# Altium integrated library Altium_WCAP-CSGP (rev22a).IntLib: 953 symbols (part 7 of 17)
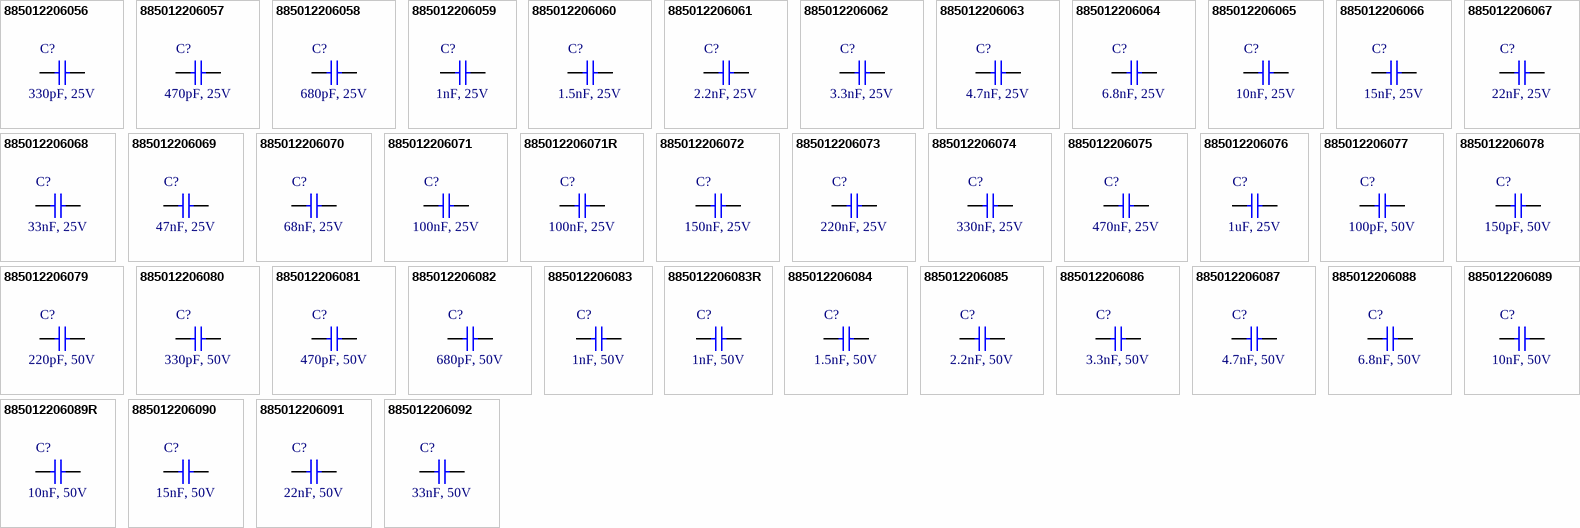
[diagram p33: symbols 885012206056 to 885012206092]

## 885012206079
designator C?, comment 220pF, 50V
WCAP-CSGP Multilayer Ceramic Chip Capacitor, General Purpose, size 0603, X7R, 220pF, 50V; Manufacturer: Wurth Elektronik; Manufacturer Part Number: 885012206079; Capacitance Tolerance: +/-10%; Dissipation Factor: 2.5%; Isolation Resistance: 10GOhm; Technical Reference: X7R0603221K050DFCT10000; Capacitance: 220pF; Ceramic Type: X7R; ComponentLink1Description: Manufacturer Link; ComponentLink1URL: http://www.we-online.de; ComponentLink2Description: Datasheet; ComponentLink2URL: https://www.we-online.com/catalog/datasheet/885012206079.pdf; Height: 0.8mm; Length: 1.6mm; Mounting Technology: SMT; Operating Temperature max.: 125C; Operating Temperature min.: -55C; Packaging: Tape and Reel; Rated Voltage: 50V; Size: 0603; Width: 0.8mm
footprint WCAP-CSGP_0603_L1.6W0.8H0.8_Wave
footprint WCAP-CSGP_0603_L1.6W0.8H0.8_Reflow
pins: 1, 2

## 885012206080
designator C?, comment 330pF, 50V
WCAP-CSGP Multilayer Ceramic Chip Capacitor, General Purpose, size 0603, X7R, 330pF, 50V; Manufacturer: Wurth Elektronik; Manufacturer Part Number: 885012206080; Capacitance Tolerance: +/-10%; Dissipation Factor: 2.5%; Isolation Resistance: 10GOhm; Technical Reference: X7R0603331K050DFCT10000; Capacitance: 330pF; Ceramic Type: X7R; ComponentLink1Description: Manufacturer Link; ComponentLink1URL: http://www.we-online.de; ComponentLink2Description: Datasheet; ComponentLink2URL: https://www.we-online.com/catalog/datasheet/885012206080.pdf; Height: 0.8mm; Length: 1.6mm; Mounting Technology: SMT; Operating Temperature max.: 125C; Operating Temperature min.: -55C; Packaging: Tape and Reel; Rated Voltage: 50V; Size: 0603; Width: 0.8mm
footprint WCAP-CSGP_0603_L1.6W0.8H0.8_Wave
footprint WCAP-CSGP_0603_L1.6W0.8H0.8_Reflow
pins: 1, 2

## 885012206081
designator C?, comment 470pF, 50V
WCAP-CSGP Multilayer Ceramic Chip Capacitor, General Purpose, size 0603, X7R, 470pF, 50V; Manufacturer: Wurth Elektronik; Manufacturer Part Number: 885012206081; Capacitance Tolerance: +/-10%; Dissipation Factor: 2.5%; Isolation Resistance: 10GOhm; Technical Reference: X7R0603471K050DFCT10000; Capacitance: 470pF; Ceramic Type: X7R; ComponentLink1Description: Manufacturer Link; ComponentLink1URL: http://www.we-online.de; ComponentLink2Description: Datasheet; ComponentLink2URL: https://www.we-online.com/catalog/datasheet/885012206081.pdf; Height: 0.8mm; Length: 1.6mm; Mounting Technology: SMT; Operating Temperature max.: 125C; Operating Temperature min.: -55C; Packaging: Tape and Reel; Rated Voltage: 50V; Size: 0603; Width: 0.8mm
footprint WCAP-CSGP_0603_L1.6W0.8H0.8_Wave
footprint WCAP-CSGP_0603_L1.6W0.8H0.8_Reflow
pins: 1, 2

## 885012206082
designator C?, comment 680pF, 50V
WCAP-CSGP Multilayer Ceramic Chip Capacitor, General Purpose, size 0603, X7R, 680pF, 50V; Manufacturer: Wurth Elektronik; Manufacturer Part Number: 885012206082; Capacitance Tolerance: +/-10%; Dissipation Factor: 2.5%; Isolation Resistance: 10GOhm; Technical Reference: X7R0603681K050DFCT10000; Capacitance: 680pF; Ceramic Type: X7R; ComponentLink1Description: Manufacturer Link; ComponentLink1URL: http://www.we-online.de; ComponentLink2Description: Datasheet; ComponentLink2URL: https://www.we-online.com/catalog/datasheet/885012206082.pdf; Height: 0.8mm; Length: 1.6mm; Mounting Technology: SMT; Operating Temperature max.: 125C; Operating Temperature min.: -55C; Packaging: Tape and Reel; Rated Voltage: 50V; Size: 0603; Width: 0.8mm
footprint WCAP-CSGP_0603_L1.6W0.8H0.8_Wave
footprint WCAP-CSGP_0603_L1.6W0.8H0.8_Reflow
pins: 1, 2

## 885012206083
designator C?, comment 1nF, 50V
WCAP-CSGP Multilayer Ceramic Chip Capacitor, General Purpose, size 0603, X7R, 1nF, 50V; Manufacturer: Wurth Elektronik; Manufacturer Part Number: 885012206083; Capacitance Tolerance: +/-10%; Dissipation Factor: 2.5%; Isolation Resistance: 10GOhm; Technical Reference: X7R0603102K050DFCT10000; Capacitance: 1nF; Ceramic Type: X7R; ComponentLink1Description: Manufacturer Link; ComponentLink1URL: http://www.we-online.de; ComponentLink2Description: Datasheet; ComponentLink2URL: https://www.we-online.com/catalog/datasheet/885012206083.pdf; Height: 0.8mm; Length: 1.6mm; Mounting Technology: SMT; Operating Temperature max.: 125C; Operating Temperature min.: -55C; Packaging: Tape and Reel; Rated Voltage: 50V; Size: 0603; Width: 0.8mm
footprint WCAP-CSGP_0603_L1.6W0.8H0.8_Wave
footprint WCAP-CSGP_0603_L1.6W0.8H0.8_Reflow
pins: 1, 2

## 885012206083R
designator C?, comment 1nF, 50V
WCAP-CSGP Multilayer Ceramic Chip Capacitor, General Purpose, size 0603, X7R, 1nF, 50V; Manufacturer: Wurth Elektronik; Manufacturer Part Number: 885012206083R; Capacitance Tolerance: +/-10%; Dissipation Factor: 2.5%; Isolation Resistance: 10GOhm; Technical Reference: X7R0603102K050DFCT20000; Capacitance: 1nF; Ceramic Type: X7R; ComponentLink1Description: Manufacturer Link; ComponentLink1URL: http://www.we-online.de; ComponentLink2Description: Datasheet; ComponentLink2URL: https://www.we-online.com/catalog/datasheet/885012206083R.pdf; Height: 0.8mm; Length: 1.6mm; Mounting Technology: SMT; Operating Temperature max.: 125C; Operating Temperature min.: -55C; Packaging: Tape and Reel; Rated Voltage: 50V; Size: 0603; Width: 0.8mm
footprint WCAP-CSGP_0603_L1.6W0.8H0.8_Wave
footprint WCAP-CSGP_0603_L1.6W0.8H0.8_Reflow
pins: 1, 2

## 885012206084
designator C?, comment 1.5nF, 50V
WCAP-CSGP Multilayer Ceramic Chip Capacitor, General Purpose, size 0603, X7R, 1.5nF, 50V; Manufacturer: Wurth Elektronik; Manufacturer Part Number: 885012206084; Capacitance Tolerance: +/-10%; Dissipation Factor: 2.5%; Isolation Resistance: 10GOhm; Technical Reference: X7R0603152K050DFCT10000; Capacitance: 1.5nF; Ceramic Type: X7R; ComponentLink1Description: Manufacturer Link; ComponentLink1URL: http://www.we-online.de; ComponentLink2Description: Datasheet; ComponentLink2URL: https://www.we-online.com/catalog/datasheet/885012206084.pdf; Height: 0.8mm; Length: 1.6mm; Mounting Technology: SMT; Operating Temperature max.: 125C; Operating Temperature min.: -55C; Packaging: Tape and Reel; Rated Voltage: 50V; Size: 0603; Width: 0.8mm
footprint WCAP-CSGP_0603_L1.6W0.8H0.8_Wave
footprint WCAP-CSGP_0603_L1.6W0.8H0.8_Reflow
pins: 1, 2

## 885012206085
designator C?, comment 2.2nF, 50V
WCAP-CSGP Multilayer Ceramic Chip Capacitor, General Purpose, size 0603, X7R, 2.2nF, 50V; Manufacturer: Wurth Elektronik; Manufacturer Part Number: 885012206085; Capacitance Tolerance: +/-10%; Dissipation Factor: 2.5%; Isolation Resistance: 10GOhm; Technical Reference: X7R0603222K050DFCT10000; Capacitance: 2.2nF; Ceramic Type: X7R; ComponentLink1Description: Manufacturer Link; ComponentLink1URL: http://www.we-online.de; ComponentLink2Description: Datasheet; ComponentLink2URL: https://www.we-online.com/catalog/datasheet/885012206085.pdf; Height: 0.8mm; Length: 1.6mm; Mounting Technology: SMT; Operating Temperature max.: 125C; Operating Temperature min.: -55C; Packaging: Tape and Reel; Rated Voltage: 50V; Size: 0603; Width: 0.8mm
footprint WCAP-CSGP_0603_L1.6W0.8H0.8_Wave
footprint WCAP-CSGP_0603_L1.6W0.8H0.8_Reflow
pins: 1, 2

## 885012206086
designator C?, comment 3.3nF, 50V
WCAP-CSGP Multilayer Ceramic Chip Capacitor, General Purpose, size 0603, X7R, 3.3nF, 50V; Manufacturer: Wurth Elektronik; Manufacturer Part Number: 885012206086; Capacitance Tolerance: +/-10%; Dissipation Factor: 2.5%; Isolation Resistance: 10GOhm; Technical Reference: X7R0603332K050DFCT10000; Capacitance: 3.3nF; Ceramic Type: X7R; ComponentLink1Description: Manufacturer Link; ComponentLink1URL: http://www.we-online.de; ComponentLink2Description: Datasheet; ComponentLink2URL: https://www.we-online.com/catalog/datasheet/885012206086.pdf; Height: 0.8mm; Length: 1.6mm; Mounting Technology: SMT; Operating Temperature max.: 125C; Operating Temperature min.: -55C; Packaging: Tape and Reel; Rated Voltage: 50V; Size: 0603; Width: 0.8mm
footprint WCAP-CSGP_0603_L1.6W0.8H0.8_Wave
footprint WCAP-CSGP_0603_L1.6W0.8H0.8_Reflow
pins: 1, 2

## 885012206087
designator C?, comment 4.7nF, 50V
WCAP-CSGP Multilayer Ceramic Chip Capacitor, General Purpose, size 0603, X7R, 4.7nF, 50V; Manufacturer: Wurth Elektronik; Manufacturer Part Number: 885012206087; Capacitance Tolerance: +/-10%; Dissipation Factor: 2.5%; Isolation Resistance: 10GOhm; Technical Reference: X7R0603472K050DFCT10000; Capacitance: 4.7nF; Ceramic Type: X7R; ComponentLink1Description: Manufacturer Link; ComponentLink1URL: http://www.we-online.de; ComponentLink2Description: Datasheet; ComponentLink2URL: https://www.we-online.com/catalog/datasheet/885012206087.pdf; Height: 0.8mm; Length: 1.6mm; Mounting Technology: SMT; Operating Temperature max.: 125C; Operating Temperature min.: -55C; Packaging: Tape and Reel; Rated Voltage: 50V; Size: 0603; Width: 0.8mm
footprint WCAP-CSGP_0603_L1.6W0.8H0.8_Wave
footprint WCAP-CSGP_0603_L1.6W0.8H0.8_Reflow
pins: 1, 2

## 885012206088
designator C?, comment 6.8nF, 50V
WCAP-CSGP Multilayer Ceramic Chip Capacitor, General Purpose, size 0603, X7R, 6.8nF, 50V; Manufacturer: Wurth Elektronik; Manufacturer Part Number: 885012206088; Capacitance Tolerance: +/-10%; Dissipation Factor: 2.5%; Isolation Resistance: 10GOhm; Technical Reference: X7R0603682K050DFCT10000; Capacitance: 6.8nF; Ceramic Type: X7R; ComponentLink1Description: Manufacturer Link; ComponentLink1URL: http://www.we-online.de; ComponentLink2Description: Datasheet; ComponentLink2URL: https://www.we-online.com/catalog/datasheet/885012206088.pdf; Height: 0.8mm; Length: 1.6mm; Mounting Technology: SMT; Operating Temperature max.: 125C; Operating Temperature min.: -55C; Packaging: Tape and Reel; Rated Voltage: 50V; Size: 0603; Width: 0.8mm
footprint WCAP-CSGP_0603_L1.6W0.8H0.8_Wave
footprint WCAP-CSGP_0603_L1.6W0.8H0.8_Reflow
pins: 1, 2

## 885012206089
designator C?, comment 10nF, 50V
WCAP-CSGP Multilayer Ceramic Chip Capacitor, General Purpose, size 0603, X7R, 10nF, 50V; Manufacturer: Wurth Elektronik; Manufacturer Part Number: 885012206089; Capacitance Tolerance: +/-10%; Dissipation Factor: 2.5%; Isolation Resistance: 10GOhm; Technical Reference: X7R0603103K050DFCT10000; Capacitance: 10nF; Ceramic Type: X7R; ComponentLink1Description: Manufacturer Link; ComponentLink1URL: http://www.we-online.de; ComponentLink2Description: Datasheet; ComponentLink2URL: https://www.we-online.com/catalog/datasheet/885012206089.pdf; Height: 0.8mm; Length: 1.6mm; Mounting Technology: SMT; Operating Temperature max.: 125C; Operating Temperature min.: -55C; Packaging: Tape and Reel; Rated Voltage: 50V; Size: 0603; Width: 0.8mm
footprint WCAP-CSGP_0603_L1.6W0.8H0.8_Wave
footprint WCAP-CSGP_0603_L1.6W0.8H0.8_Reflow
pins: 1, 2

## 885012206089R
designator C?, comment 10nF, 50V
WCAP-CSGP Multilayer Ceramic Chip Capacitor, General Purpose, size 0603, X7R, 10nF, 50V; Manufacturer: Wurth Elektronik; Manufacturer Part Number: 885012206089R; Capacitance Tolerance: +/10%; Dissipation Factor: 2.5%; Isolation Resistance: 10GOhm; Technical Reference: X7R0603103K050DFCT20000; Capacitance: 10nF; Ceramic Type: X7R; ComponentLink1Description: Manufacturer Link; ComponentLink1URL: http://www.we-online.de; ComponentLink2Description: Datasheet; ComponentLink2URL: https://www.we-online.com/catalog/datasheet/885012206089R.pdf; Height: 0.8mm; Length: 1.6mm; Mounting Technology: SMT; Operating Temperature max.: 125C; Operating Temperature min.: -55C; Packaging: Tape and Reel; Rated Voltage: 50V; Size: 0603; Width: 0.8mm
footprint WCAP-CSGP_0603_L1.6W0.8H0.8_Wave
footprint WCAP-CSGP_0603_L1.6W0.8H0.8_Reflow
pins: 1, 2

## 885012206090
designator C?, comment 15nF, 50V
WCAP-CSGP Multilayer Ceramic Chip Capacitor, General Purpose, size 0603, X7R, 15nF, 50V; Manufacturer: Wurth Elektronik; Manufacturer Part Number: 885012206090; Capacitance Tolerance: +/-10%; Dissipation Factor: 2.5%; Isolation Resistance: 10GOhm; Technical Reference: X7R0603153K050DFCT10000; Capacitance: 15nF; Ceramic Type: X7R; ComponentLink1Description: Manufacturer Link; ComponentLink1URL: http://www.we-online.de; ComponentLink2Description: Datasheet; ComponentLink2URL: https://www.we-online.com/catalog/datasheet/885012206090.pdf; Height: 0.8mm; Length: 1.6mm; Mounting Technology: SMT; Operating Temperature max.: 125C; Operating Temperature min.: -55C; Packaging: Tape and Reel; Rated Voltage: 50V; Size: 0603; Width: 0.8mm
footprint WCAP-CSGP_0603_L1.6W0.8H0.8_Wave
footprint WCAP-CSGP_0603_L1.6W0.8H0.8_Reflow
pins: 1, 2

## 885012206091
designator C?, comment 22nF, 50V
WCAP-CSGP Multilayer Ceramic Chip Capacitor, General Purpose, size 0603, X7R, 22nF, 50V; Manufacturer: Wurth Elektronik; Manufacturer Part Number: 885012206091; Capacitance Tolerance: +/-10%; Dissipation Factor: 2.5%; Isolation Resistance: 10GOhm; Technical Reference: X7R0603223K050DFCT10000; Capacitance: 22nF; Ceramic Type: X7R; ComponentLink1Description: Manufacturer Link; ComponentLink1URL: http://www.we-online.de; ComponentLink2Description: Datasheet; ComponentLink2URL: https://www.we-online.com/catalog/datasheet/885012206091.pdf; Height: 0.8mm; Length: 1.6mm; Mounting Technology: SMT; Operating Temperature max.: 125C; Operating Temperature min.: -55C; Packaging: Tape and Reel; Rated Voltage: 50V; Size: 0603; Width: 0.8mm
footprint WCAP-CSGP_0603_L1.6W0.8H0.8_Wave
footprint WCAP-CSGP_0603_L1.6W0.8H0.8_Reflow
pins: 1, 2

## 885012206092
designator C?, comment 33nF, 50V
WCAP-CSGP Multilayer Ceramic Chip Capacitor, General Purpose, size 0603, X7R, 33nF, 50V; Manufacturer: Wurth Elektronik; Manufacturer Part Number: 885012206092; Capacitance Tolerance: +/-10%; Dissipation Factor: 2.5%; Isolation Resistance: 10GOhm; Technical Reference: X7R0603333K050DFCT10000; Capacitance: 33nF; Ceramic Type: X7R; ComponentLink1Description: Manufacturer Link; ComponentLink1URL: http://www.we-online.de; ComponentLink2Description: Datasheet; ComponentLink2URL: https://www.we-online.com/catalog/datasheet/885012206092.pdf; Height: 0.8mm; Length: 1.6mm; Mounting Technology: SMT; Operating Temperature max.: 125C; Operating Temperature min.: -55C; Packaging: Tape and Reel; Rated Voltage: 50V; Size: 0603; Width: 0.8mm
footprint WCAP-CSGP_0603_L1.6W0.8H0.8_Wave
footprint WCAP-CSGP_0603_L1.6W0.8H0.8_Reflow
pins: 1, 2

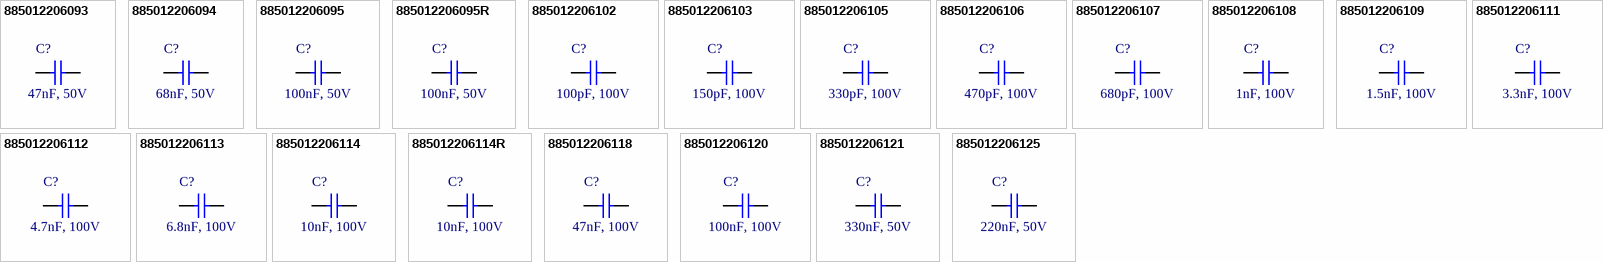
[diagram p10: symbols 885012206093 to 885012206125]

## 885012206093
designator C?, comment 47nF, 50V
WCAP-CSGP Multilayer Ceramic Chip Capacitor, General Purpose, size 0603, X7R, 47nF, 50V; Manufacturer: Wurth Elektronik; Manufacturer Part Number: 885012206093; Capacitance Tolerance: +/-10%; Dissipation Factor: 3%; Isolation Resistance: 10GOhm; Technical Reference: X7R0603473K050DFCT10000; Capacitance: 47nF; Ceramic Type: X7R; ComponentLink1Description: Manufacturer Link; ComponentLink1URL: http://www.we-online.de; ComponentLink2Description: Datasheet; ComponentLink2URL: https://www.we-online.com/catalog/datasheet/885012206093.pdf; Height: 0.8mm; Length: 1.6mm; Mounting Technology: SMT; Operating Temperature max.: 125C; Operating Temperature min.: -55C; Packaging: Tape and Reel; Rated Voltage: 50V; Size: 0603; Width: 0.8mm
footprint WCAP-CSGP_0603_L1.6W0.8H0.8_Wave
footprint WCAP-CSGP_0603_L1.6W0.8H0.8_Reflow
pins: 1, 2

## 885012206094
designator C?, comment 68nF, 50V
WCAP-CSGP Multilayer Ceramic Chip Capacitor, General Purpose, size 0603, X7R, 68nF, 50V; Manufacturer: Wurth Elektronik; Manufacturer Part Number: 885012206094; Capacitance Tolerance: +/-10%; Dissipation Factor: 3%; Isolation Resistance: 7.4GOhm; Technical Reference: X7R0603683K050DFCT10000; Capacitance: 68nF; Ceramic Type: X7R; ComponentLink1Description: Manufacturer Link; ComponentLink1URL: http://www.we-online.de; ComponentLink2Description: Datasheet; ComponentLink2URL: https://www.we-online.com/catalog/datasheet/885012206094.pdf; Height: 0.8mm; Length: 1.6mm; Mounting Technology: SMT; Operating Temperature max.: 125C; Operating Temperature min.: -55C; Packaging: Tape and Reel; Rated Voltage: 50V; Size: 0603; Width: 0.8mm
footprint WCAP-CSGP_0603_L1.6W0.8H0.8_Wave
footprint WCAP-CSGP_0603_L1.6W0.8H0.8_Reflow
pins: 1, 2

## 885012206095
designator C?, comment 100nF, 50V
WCAP-CSGP Multilayer Ceramic Chip Capacitor, General Purpose, size 0603, X7R, 100nF, 50V; Manufacturer: Wurth Elektronik; Manufacturer Part Number: 885012206095; Capacitance Tolerance: +/-10%; Dissipation Factor: 3%; Isolation Resistance: 5GOhm; Technical Reference: X7R0603104K050DFCT10000; Capacitance: 100nF; Ceramic Type: X7R; ComponentLink1Description: Manufacturer Link; ComponentLink1URL: http://www.we-online.de; ComponentLink2Description: Datasheet; ComponentLink2URL: https://www.we-online.com/catalog/datasheet/885012206095.pdf; Height: 0.8mm; Length: 1.6mm; Mounting Technology: SMT; Operating Temperature max.: 125C; Operating Temperature min.: -55C; Packaging: Tape and Reel; Rated Voltage: 50V; Size: 0603; Width: 0.8mm
footprint WCAP-CSGP_0603_L1.6W0.8H0.8_Wave
footprint WCAP-CSGP_0603_L1.6W0.8H0.8_Reflow
pins: 1, 2

## 885012206095R
designator C?, comment 100nF, 50V
WCAP-CSGP Multilayer Ceramic Chip Capacitor, General Purpose, size 0603, X7R, 100nF, 50V; Manufacturer: Wurth Elektronik; Manufacturer Part Number: 885012206095R; Capacitance Tolerance: +/-10%; Dissipation Factor: 3%; Isolation Resistance: 5GOhm; Technical Reference: X7R0603104K050DFCT20000; Capacitance: 100nF; Ceramic Type: X7R; ComponentLink1Description: Manufacturer Link; ComponentLink1URL: http://www.we-online.de; ComponentLink2Description: Datasheet; ComponentLink2URL: https://www.we-online.com/catalog/datasheet/885012206095R.pdf; Height: 0.8mm; Length: 1.6mm; Mounting Technology: SMT; Operating Temperature max.: 125C; Operating Temperature min.: -55C; Packaging: Tape and Reel; Rated Voltage: 50V; Size: 0603; Width: 0.8mm
footprint WCAP-CSGP_0603_L1.6W0.8H0.8_Wave
footprint WCAP-CSGP_0603_L1.6W0.8H0.8_Reflow
pins: 1, 2

## 885012206102
designator C?, comment 100pF, 100V
WCAP-CSGP Multilayer Ceramic Chip Capacitor, General Purpose, size 0603, X7R, 100pF, 100V; Manufacturer: Wurth Elektronik; Manufacturer Part Number: 885012206102; Capacitance Tolerance: +/-10%; Dissipation Factor: 2.5%; Isolation Resistance: 10GOhm; Technical Reference: X7R0603101K100DFCT10000; Capacitance: 100pF; Ceramic Type: X7R; ComponentLink1Description: Manufacturer Link; ComponentLink1URL: http://www.we-online.de; ComponentLink2Description: Datasheet; ComponentLink2URL: https://www.we-online.com/catalog/datasheet/885012206102.pdf; Height: 0.8mm; Length: 1.6mm; Mounting Technology: SMT; Operating Temperature max.: 125C; Operating Temperature min.: -55C; Packaging: Tape and Reel; Rated Voltage: 100V; Size: 0603; Width: 0.8mm
footprint WCAP-CSGP_0603_L1.6W0.8H0.8_Wave
footprint WCAP-CSGP_0603_L1.6W0.8H0.8_Reflow
pins: 1, 2

## 885012206103
designator C?, comment 150pF, 100V
WCAP-CSGP Multilayer Ceramic Chip Capacitor, General Purpose, size 0603, X7R, 150pF, 100V; Manufacturer: Wurth Elektronik; Manufacturer Part Number: 885012206103; Capacitance Tolerance: +/-10%; Dissipation Factor: 2.5%; Isolation Resistance: 10GOhm; Technical Reference: X7R0603151K100DFCT10000; Capacitance: 150pF; Ceramic Type: X7R; ComponentLink1Description: Manufacturer Link; ComponentLink1URL: http://www.we-online.de; ComponentLink2Description: Datasheet; ComponentLink2URL: https://www.we-online.com/catalog/datasheet/885012206103.pdf; Height: 0.8mm; Length: 1.6mm; Mounting Technology: SMT; Operating Temperature max.: 125C; Operating Temperature min.: -55C; Packaging: Tape and Reel; Rated Voltage: 100V; Size: 0603; Width: 0.8mm
footprint WCAP-CSGP_0603_L1.6W0.8H0.8_Wave
footprint WCAP-CSGP_0603_L1.6W0.8H0.8_Reflow
pins: 1, 2

## 885012206105
designator C?, comment 330pF, 100V
WCAP-CSGP Multilayer Ceramic Chip Capacitor, General Purpose, size 0603, X7R, 330pF, 100V; Manufacturer: Wurth Elektronik; Manufacturer Part Number: 885012206105; Capacitance Tolerance: +/-10%; Dissipation Factor: 2.5%; Isolation Resistance: 10GOhm; Technical Reference: X7R0603331K100DFCT10000; Capacitance: 330pF; Ceramic Type: X7R; ComponentLink1Description: Manufacturer Link; ComponentLink1URL: http://www.we-online.de; ComponentLink2Description: Datasheet; ComponentLink2URL: https://www.we-online.com/catalog/datasheet/885012206105.pdf; Height: 0.8mm; Length: 1.6mm; Mounting Technology: SMT; Operating Temperature max.: 125C; Operating Temperature min.: -55C; Packaging: Tape and Reel; Rated Voltage: 100V; Size: 0603; Width: 0.8mm
footprint WCAP-CSGP_0603_L1.6W0.8H0.8_Wave
footprint WCAP-CSGP_0603_L1.6W0.8H0.8_Reflow
pins: 1, 2

## 885012206106
designator C?, comment 470pF, 100V
WCAP-CSGP Multilayer Ceramic Chip Capacitor, General Purpose, size 0603, X7R, 470pF, 100V; Manufacturer: Wurth Elektronik; Manufacturer Part Number: 885012206106; Capacitance Tolerance: +/-10%; Dissipation Factor: 2.5%; Isolation Resistance: 10GOhm; Technical Reference: X7R0603471K100DFCT10000; Capacitance: 470pF; Ceramic Type: X7R; ComponentLink1Description: Manufacturer Link; ComponentLink1URL: http://www.we-online.de; ComponentLink2Description: Datasheet; ComponentLink2URL: https://www.we-online.com/catalog/datasheet/885012206106.pdf; Height: 0.8mm; Length: 1.6mm; Mounting Technology: SMT; Operating Temperature max.: 125C; Operating Temperature min.: -55C; Packaging: Tape and Reel; Rated Voltage: 100V; Size: 0603; Width: 0.8mm
footprint WCAP-CSGP_0603_L1.6W0.8H0.8_Wave
footprint WCAP-CSGP_0603_L1.6W0.8H0.8_Reflow
pins: 1, 2

## 885012206107
designator C?, comment 680pF, 100V
WCAP-CSGP Multilayer Ceramic Chip Capacitor, General Purpose, size 0603, X7R, 680pF, 100V; Manufacturer: Wurth Elektronik; Manufacturer Part Number: 885012206107; Capacitance Tolerance: +/-10%; Dissipation Factor: 2.5%; Isolation Resistance: 10GOhm; Technical Reference: X7R0603681K100DFCT10000; Capacitance: 680pF; Ceramic Type: X7R; ComponentLink1Description: Manufacturer Link; ComponentLink1URL: http://www.we-online.de; ComponentLink2Description: Datasheet; ComponentLink2URL: https://www.we-online.com/catalog/datasheet/885012206107.pdf; Height: 0.8mm; Length: 1.6mm; Mounting Technology: SMT; Operating Temperature max.: 125C; Operating Temperature min.: -55C; Packaging: Tape and Reel; Rated Voltage: 100V; Size: 0603; Width: 0.8mm
footprint WCAP-CSGP_0603_L1.6W0.8H0.8_Wave
footprint WCAP-CSGP_0603_L1.6W0.8H0.8_Reflow
pins: 1, 2

## 885012206108
designator C?, comment 1nF, 100V
WCAP-CSGP Multilayer Ceramic Chip Capacitor, General Purpose, size 0603, X7R, 1nF, 100V; Manufacturer: Wurth Elektronik; Manufacturer Part Number: 885012206108; Capacitance Tolerance: +/-10%; Dissipation Factor: 2.5%; Isolation Resistance: 10GOhm; Technical Reference: X7R0603102K100DFCT10000; Capacitance: 1nF; Ceramic Type: X7R; ComponentLink1Description: Manufacturer Link; ComponentLink1URL: http://www.we-online.de; ComponentLink2Description: Datasheet; ComponentLink2URL: https://www.we-online.com/catalog/datasheet/885012206108.pdf; Height: 0.8mm; Length: 1.6mm; Mounting Technology: SMT; Operating Temperature max.: 125C; Operating Temperature min.: -55C; Packaging: Tape and Reel; Rated Voltage: 100V; Size: 0603; Width: 0.8mm
footprint WCAP-CSGP_0603_L1.6W0.8H0.8_Wave
footprint WCAP-CSGP_0603_L1.6W0.8H0.8_Reflow
pins: 1, 2

## 885012206109
designator C?, comment 1.5nF, 100V
WCAP-CSGP Multilayer Ceramic Chip Capacitor, General Purpose, size 0603, X7R, 1.5nF, 100V; Manufacturer: Wurth Elektronik; Manufacturer Part Number: 885012206109; Capacitance Tolerance: +/-10%; Dissipation Factor: 2.5%; Isolation Resistance: 10GOhm; Technical Reference: X7R0603152K100DFCT10000; Capacitance: 1.5nF; Ceramic Type: X7R; ComponentLink1Description: Manufacturer Link; ComponentLink1URL: http://www.we-online.de; ComponentLink2Description: Datasheet; ComponentLink2URL: https://www.we-online.com/catalog/datasheet/885012206109.pdf; Height: 0.8mm; Length: 1.6mm; Mounting Technology: SMT; Operating Temperature max.: 125C; Operating Temperature min.: -55C; Packaging: Tape and Reel; Rated Voltage: 100V; Size: 0603; Width: 0.8mm
footprint WCAP-CSGP_0603_L1.6W0.8H0.8_Wave
footprint WCAP-CSGP_0603_L1.6W0.8H0.8_Reflow
pins: 1, 2

## 885012206111
designator C?, comment 3.3nF, 100V
WCAP-CSGP Multilayer Ceramic Chip Capacitor, General Purpose, size 0603, X7R, 3.3nF, 100V; Manufacturer: Wurth Elektronik; Manufacturer Part Number: 885012206111; Capacitance Tolerance: +/-10%; Dissipation Factor: 2.5%; Isolation Resistance: 10GOhm; Technical Reference: X7R0603332K100DFCT10000; Capacitance: 3.3nF; Ceramic Type: X7R; ComponentLink1Description: Manufacturer Link; ComponentLink1URL: http://www.we-online.de; ComponentLink2Description: Datasheet; ComponentLink2URL: https://www.we-online.com/catalog/datasheet/885012206111.pdf; Height: 0.8mm; Length: 1.6mm; Mounting Technology: SMT; Operating Temperature max.: 125C; Operating Temperature min.: -55C; Packaging: Tape and Reel; Rated Voltage: 100V; Size: 0603; Width: 0.8mm
footprint WCAP-CSGP_0603_L1.6W0.8H0.8_Wave
footprint WCAP-CSGP_0603_L1.6W0.8H0.8_Reflow
pins: 1, 2

## 885012206112
designator C?, comment 4.7nF, 100V
WCAP-CSGP Multilayer Ceramic Chip Capacitor, General Purpose, size 0603, X7R, 4.7nF, 100V; Manufacturer: Wurth Elektronik; Manufacturer Part Number: 885012206112; Capacitance Tolerance: +/-10%; Dissipation Factor: 2.5%; Isolation Resistance: 10GOhm; Technical Reference: X7R0603472K100DFCT10000; Capacitance: 4.7nF; Ceramic Type: X7R; ComponentLink1Description: Manufacturer Link; ComponentLink1URL: http://www.we-online.de; ComponentLink2Description: Datasheet; ComponentLink2URL: https://www.we-online.com/catalog/datasheet/885012206112.pdf; Height: 0.8mm; Length: 1.6mm; Mounting Technology: SMT; Operating Temperature max.: 125C; Operating Temperature min.: -55C; Packaging: Tape and Reel; Rated Voltage: 100V; Size: 0603; Width: 0.8mm
footprint WCAP-CSGP_0603_L1.6W0.8H0.8_Wave
footprint WCAP-CSGP_0603_L1.6W0.8H0.8_Reflow
pins: 1, 2

## 885012206113
designator C?, comment 6.8nF, 100V
WCAP-CSGP Multilayer Ceramic Chip Capacitor, General Purpose, size 0603, X7R, 6.8nF, 100V; Manufacturer: Wurth Elektronik; Manufacturer Part Number: 885012206113; Capacitance Tolerance: +/-10%; Dissipation Factor: 2.5%; Isolation Resistance: 10GOhm; Technical Reference: X7R0603682K100DFCT10000; Capacitance: 6.8nF; Ceramic Type: X7R; ComponentLink1Description: Manufacturer Link; ComponentLink1URL: http://www.we-online.de; ComponentLink2Description: Datasheet; ComponentLink2URL: https://www.we-online.com/catalog/datasheet/885012206113.pdf; Height: 0.8mm; Length: 1.6mm; Mounting Technology: SMT; Operating Temperature max.: 125C; Operating Temperature min.: -55C; Packaging: Tape and Reel; Rated Voltage: 100V; Size: 0603; Width: 0.8mm
footprint WCAP-CSGP_0603_L1.6W0.8H0.8_Wave
footprint WCAP-CSGP_0603_L1.6W0.8H0.8_Reflow
pins: 1, 2

## 885012206114
designator C?, comment 10nF, 100V
WCAP-CSGP Multilayer Ceramic Chip Capacitor, General Purpose, size 0603, X7R, 10nF, 100V; Manufacturer: Wurth Elektronik; Manufacturer Part Number: 885012206114; Capacitance Tolerance: +/-10%; Dissipation Factor: 2.5%; Isolation Resistance: 10GOhm; Technical Reference: X7R0603103K100DFCT10000; Capacitance: 10nF; Ceramic Type: X7R; ComponentLink1Description: Manufacturer Link; ComponentLink1URL: http://www.we-online.de; ComponentLink2Description: Datasheet; ComponentLink2URL: https://www.we-online.com/catalog/datasheet/885012206114.pdf; Height: 0.8mm; Length: 1.6mm; Mounting Technology: SMT; Operating Temperature max.: 125C; Operating Temperature min.: -55C; Packaging: Tape and Reel; Rated Voltage: 100V; Size: 0603; Width: 0.8mm
footprint WCAP-CSGP_0603_L1.6W0.8H0.8_Wave
footprint WCAP-CSGP_0603_L1.6W0.8H0.8_Reflow
pins: 1, 2

## 885012206114R
designator C?, comment 10nF, 100V
WCAP-CSGP Multilayer Ceramic Chip Capacitor, General Purpose, size 0603, X7R, 10nF, 100V; Manufacturer: Wurth Elektronik; Manufacturer Part Number: 885012206114R; Capacitance Tolerance: +/-10%; Dissipation Factor: 2.5%; Isolation Resistance: 10GOhm; Technical Reference: X7R0603103K100DFCT20000; Capacitance: 10nF; Ceramic Type: X7R; ComponentLink1Description: Manufacturer Link; ComponentLink1URL: http://www.we-online.de; ComponentLink2Description: Datasheet; ComponentLink2URL: https://www.we-online.com/catalog/datasheet/885012206114R.pdf; Height: 0.8mm; Length: 1.6mm; Mounting Technology: SMT; Operating Temperature max.: 125C; Operating Temperature min.: -55C; Packaging: Tape and Reel; Rated Voltage: 100V; Size: 0603; Width: 0.8mm
footprint WCAP-CSGP_0603_L1.6W0.8H0.8_Wave
footprint WCAP-CSGP_0603_L1.6W0.8H0.8_Reflow
pins: 1, 2

## 885012206118
designator C?, comment 47nF, 100V
WCAP-CSGP Multilayer Ceramic Chip Capacitor, General Purpose, size 0603, X7R, 47nF, 100V; Manufacturer: Wurth Elektronik; Manufacturer Part Number: 885012206118; Capacitance Tolerance: +/-10%; Dissipation Factor: 2.5%; Isolation Resistance: 2.1GOhm; Technical Reference: X7R0603473K100DFCT10000; Capacitance: 47nF; Ceramic Type: X7R; ComponentLink1Description: Manufacturer Link; ComponentLink1URL: http://www.we-online.de; ComponentLink2Description: Datasheet; ComponentLink2URL: https://www.we-online.com/catalog/datasheet/885012206118.pdf; Height: 0.8mm; Length: 1.6mm; Mounting Technology: SMT; Operating Temperature max.: 125C; Operating Temperature min.: -55C; Packaging: Tape and Reel; Rated Voltage: 100V; Size: 0603; Width: 0.8mm
footprint WCAP-CSGP_0603_L1.6W0.8H0.8_Wave
footprint WCAP-CSGP_0603_L1.6W0.8H0.8_Reflow
pins: 1, 2

## 885012206120
designator C?, comment 100nF, 100V
WCAP-CSGP Multilayer Ceramic Chip Capacitor, General Purpose, size 0603, X7R, 100nF, 100V; Manufacturer: Wurth Elektronik; Manufacturer Part Number: 885012206120; Capacitance Tolerance: +/-10%; Dissipation Factor: 5%; Isolation Resistance: 1GOhm; Technical Reference: X7R0603104K100DFCT10000; Capacitance: 100nF; Ceramic Type: X7R; ComponentLink1Description: Manufacturer Link; ComponentLink1URL: http://www.we-online.de; ComponentLink2Description: Datasheet; ComponentLink2URL: https://www.we-online.com/catalog/datasheet/885012206120.pdf; Height: 0.8mm; Length: 1.6mm; Mounting Technology: SMT; Operating Temperature max.: 125C; Operating Temperature min.: -55C; Packaging: Tape and Reel; Rated Voltage: 100V; Size: 0603; Width: 0.8mm
footprint WCAP-CSGP_0603_L1.6W0.8H0.8_Wave
footprint WCAP-CSGP_0603_L1.6W0.8H0.8_Reflow
pins: 1, 2

## 885012206121
designator C?, comment 330nF, 50V
WCAP-CSGP Multilayer Ceramic Chip Capacitor, General Purpose, size 0603, X7R, 330nF, 50V; Manufacturer: Wurth Elektronik; Manufacturer Part Number: 885012206121; Capacitance Tolerance: +/-10%; Dissipation Factor: 10%; Isolation Resistance: 1.5GOhm; Technical Reference: X7R0603334K050DFCT10000; Capacitance: 330nF; Ceramic Type: X7R; ComponentLink1Description: Manufacturer Link; ComponentLink1URL: http://www.we-online.de; ComponentLink2Description: Datasheet; ComponentLink2URL: https://www.we-online.com/catalog/datasheet/885012206121.pdf; Height: 0.8mm; Length: 1.6mm; Mounting Technology: SMT; Operating Temperature max.: 125C; Operating Temperature min.: -55C; Packaging: Tape and Reel; Rated Voltage: 50V; Size: 0603; Width: 0.8mm
footprint WCAP-CSGP_0603_L1.6W0.8H0.8_Wave
footprint WCAP-CSGP_0603_L1.6W0.8H0.8_Reflow
pins: 1, 2

## 885012206125
designator C?, comment 220nF, 50V
WCAP-CSGP Multilayer Ceramic Chip Capacitor, General Purpose, size 0603, X7R, 220nF, 50V; Manufacturer: Wurth Elektronik; Manufacturer Part Number: 885012206125; Capacitance Tolerance: +/-5%; Dissipation Factor: 10%; Isolation Resistance: 2.3GOhm; Technical Reference: X7R0603224J050DFCT10000; Capacitance: 220nF; Ceramic Type: X7R; ComponentLink1Description: Manufacturer Link; ComponentLink1URL: http://www.we-online.de; ComponentLink2Description: Datasheet; ComponentLink2URL: https://www.we-online.com/catalog/datasheet/885012206125.pdf; Height: 0.8mm; Length: 1.6mm; Mounting Technology: SMT; Operating Temperature max.: 125C; Operating Temperature min.: -55C; Packaging: Tape and Reel; Rated Voltage: 50V; Size: 0603; Width: 0.8mm
footprint WCAP-CSGP_0603_L1.6W0.8H0.8_Wave
footprint WCAP-CSGP_0603_L1.6W0.8H0.8_Reflow
pins: 1, 2


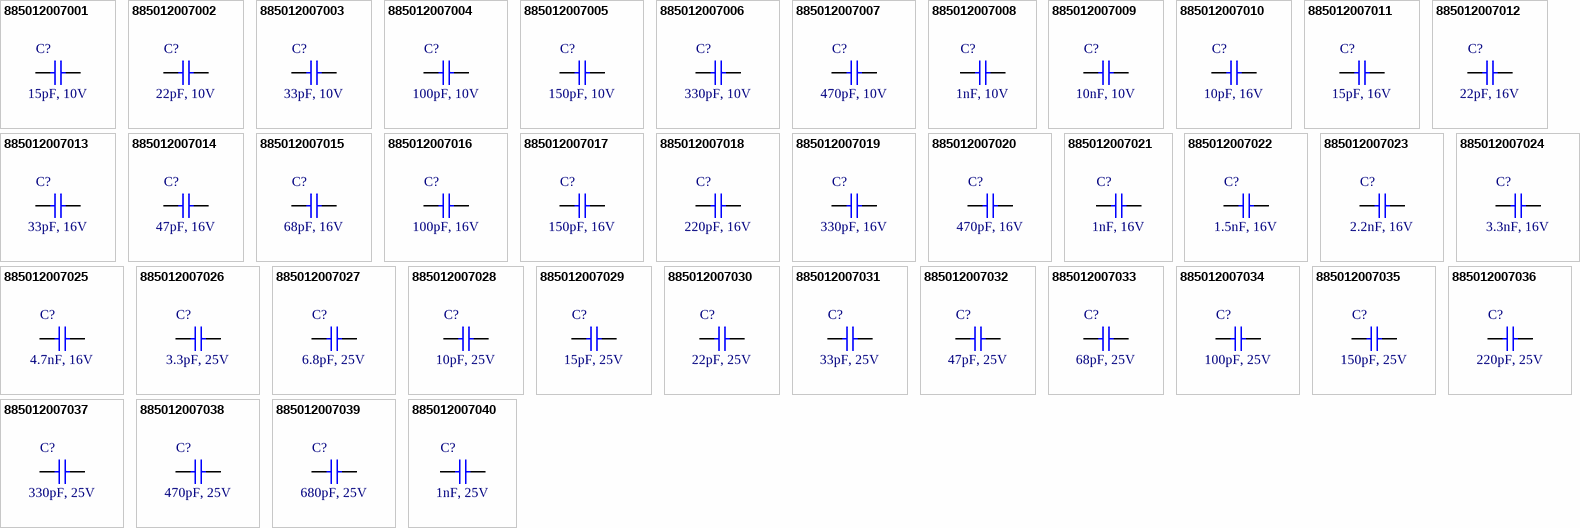
[diagram p11: symbols 885012007001 to 885012007040]

## 885012007001
designator C?, comment 15pF, 10V
WCAP-CSGP Multilayer Ceramic Chip Capacitor, General Purpose, size 0805, NP0, 15pF, 10V; Manufacturer: Wurth Elektronik; Manufacturer Part Number: 885012007001; Capacitance Tolerance: +/-5%; Isolation Resistance: 10GOhm; Q-Factor: 700; Technical Reference: NP00805150J010DFCT10000; Capacitance: 15pF; Ceramic Type: NP0; ComponentLink1Description: Manufacturer Link; ComponentLink1URL: http://www.we-online.de; ComponentLink2Description: Datasheet; ComponentLink2URL: https://www.we-online.com/catalog/datasheet/885012007001.pdf; Height: 0.6mm; Length: 2mm; Mounting Technology: SMT; Operating Temperature max.: 125C; Operating Temperature min.: -55C; Packaging: Tape and Reel; Rated Voltage: 10V; Size: 0805; Width: 1.25mm
footprint WCAP-CSGP_0805_L2W1.25H0.6_Wave
footprint WCAP-CSGP_0805_L2W1.25H0.6_Reflow
pins: 1, 2

## 885012007002
designator C?, comment 22pF, 10V
WCAP-CSGP Multilayer Ceramic Chip Capacitor, General Purpose, size 0805, NP0, 22pF, 10V; Manufacturer: Wurth Elektronik; Manufacturer Part Number: 885012007002; Capacitance Tolerance: +/-5%; Isolation Resistance: 10GOhm; Q-Factor: 840; Technical Reference: NP00805220J010DFCT10000; Capacitance: 22pF; Ceramic Type: NP0; ComponentLink1Description: Manufacturer Link; ComponentLink1URL: http://www.we-online.de; ComponentLink2Description: Datasheet; ComponentLink2URL: https://www.we-online.com/catalog/datasheet/885012007002.pdf; Height: 0.6mm; Length: 2mm; Mounting Technology: SMT; Operating Temperature max.: 125C; Operating Temperature min.: -55C; Packaging: Tape and Reel; Rated Voltage: 10V; Size: 0805; Width: 1.25mm
footprint WCAP-CSGP_0805_L2W1.25H0.6_Wave
footprint WCAP-CSGP_0805_L2W1.25H0.6_Reflow
pins: 1, 2

## 885012007003
designator C?, comment 33pF, 10V
WCAP-CSGP Multilayer Ceramic Chip Capacitor, General Purpose, size 0805, NP0, 33pF, 10V; Manufacturer: Wurth Elektronik; Manufacturer Part Number: 885012007003; Capacitance Tolerance: +/-5%; Isolation Resistance: 10GOhm; Q-Factor: 1000; Technical Reference: NP00805330J010DFCT10000; Capacitance: 33pF; Ceramic Type: NP0; ComponentLink1Description: Manufacturer Link; ComponentLink1URL: http://www.we-online.de; ComponentLink2Description: Datasheet; ComponentLink2URL: https://www.we-online.com/catalog/datasheet/885012007003.pdf; Height: 0.6mm; Length: 2mm; Mounting Technology: SMT; Operating Temperature max.: 125C; Operating Temperature min.: -55C; Packaging: Tape and Reel; Rated Voltage: 10V; Size: 0805; Width: 1.25mm
footprint WCAP-CSGP_0805_L2W1.25H0.6_Wave
footprint WCAP-CSGP_0805_L2W1.25H0.6_Reflow
pins: 1, 2

## 885012007004
designator C?, comment 100pF, 10V
WCAP-CSGP Multilayer Ceramic Chip Capacitor, General Purpose, size 0805, NP0, 100pF, 10V; Manufacturer: Wurth Elektronik; Manufacturer Part Number: 885012007004; Capacitance Tolerance: +/-5%; Isolation Resistance: 10GOhm; Q-Factor: 1000; Technical Reference: NP00805101J010DFCT10000; Capacitance: 100pF; Ceramic Type: NP0; ComponentLink1Description: Manufacturer Link; ComponentLink1URL: http://www.we-online.de; ComponentLink2Description: Datasheet; ComponentLink2URL: https://www.we-online.com/catalog/datasheet/885012007004.pdf; Height: 0.6mm; Length: 2mm; Mounting Technology: SMT; Operating Temperature max.: 125C; Operating Temperature min.: -55C; Packaging: Tape and Reel; Rated Voltage: 10V; Size: 0805; Width: 1.25mm
footprint WCAP-CSGP_0805_L2W1.25H0.6_Wave
footprint WCAP-CSGP_0805_L2W1.25H0.6_Reflow
pins: 1, 2

## 885012007005
designator C?, comment 150pF, 10V
WCAP-CSGP Multilayer Ceramic Chip Capacitor, General Purpose, size 0805, NP0, 150pF, 10V; Manufacturer: Wurth Elektronik; Manufacturer Part Number: 885012007005; Capacitance Tolerance: +/-5%; Isolation Resistance: 10GOhm; Q-Factor: 1000; Technical Reference: NP00805151J010DFCT10000; Capacitance: 150pF; Ceramic Type: NP0; ComponentLink1Description: Manufacturer Link; ComponentLink1URL: http://www.we-online.de; ComponentLink2Description: Datasheet; ComponentLink2URL: https://www.we-online.com/catalog/datasheet/885012007005.pdf; Height: 0.6mm; Length: 2mm; Mounting Technology: SMT; Operating Temperature max.: 125C; Operating Temperature min.: -55C; Packaging: Tape and Reel; Rated Voltage: 10V; Size: 0805; Width: 1.25mm
footprint WCAP-CSGP_0805_L2W1.25H0.6_Wave
footprint WCAP-CSGP_0805_L2W1.25H0.6_Reflow
pins: 1, 2

## 885012007006
designator C?, comment 330pF, 10V
WCAP-CSGP Multilayer Ceramic Chip Capacitor, General Purpose, size 0805, NP0, 330pF, 10V; Manufacturer: Wurth Elektronik; Manufacturer Part Number: 885012007006; Capacitance Tolerance: +/-5%; Isolation Resistance: 10GOhm; Q-Factor: 1000; Technical Reference: NP00805331J010DFCT10000; Capacitance: 330pF; Ceramic Type: NP0; ComponentLink1Description: Manufacturer Link; ComponentLink1URL: http://www.we-online.de; ComponentLink2Description: Datasheet; ComponentLink2URL: https://www.we-online.com/catalog/datasheet/885012007006.pdf; Height: 0.6mm; Length: 2mm; Mounting Technology: SMT; Operating Temperature max.: 125C; Operating Temperature min.: -55C; Packaging: Tape and Reel; Rated Voltage: 10V; Size: 0805; Width: 1.25mm
footprint WCAP-CSGP_0805_L2W1.25H0.6_Wave
footprint WCAP-CSGP_0805_L2W1.25H0.6_Reflow
pins: 1, 2

## 885012007007
designator C?, comment 470pF, 10V
WCAP-CSGP Multilayer Ceramic Chip Capacitor, General Purpose, size 0805, NP0, 470pF, 10V; Manufacturer: Wurth Elektronik; Manufacturer Part Number: 885012007007; Capacitance Tolerance: +/-5%; Isolation Resistance: 10GOhm; Q-Factor: 1000; Technical Reference: NP00805471J010DFCT10000; Capacitance: 470pF; Ceramic Type: NP0; ComponentLink1Description: Manufacturer Link; ComponentLink1URL: http://www.we-online.de; ComponentLink2Description: Datasheet; ComponentLink2URL: https://www.we-online.com/catalog/datasheet/885012007007.pdf; Height: 0.8mm; Length: 2mm; Mounting Technology: SMT; Operating Temperature max.: 125C; Operating Temperature min.: -55C; Packaging: Tape and Reel; Rated Voltage: 10V; Size: 0805; Width: 1.25mm
footprint WCAP-CSGP_0805_L2W1.25H0.8_Wave
footprint WCAP-CSGP_0805_L2W1.25H0.8_Reflow
pins: 1, 2

## 885012007008
designator C?, comment 1nF, 10V
WCAP-CSGP Multilayer Ceramic Chip Capacitor, General Purpose, size 0805, NP0, 1nF, 10V; Manufacturer: Wurth Elektronik; Manufacturer Part Number: 885012007008; Capacitance Tolerance: +/-5%; Isolation Resistance: 10GOhm; Q-Factor: 1000; Technical Reference: NP00805102J010DFCT10000; Capacitance: 1nF; Ceramic Type: NP0; ComponentLink1Description: Manufacturer Link; ComponentLink1URL: http://www.we-online.de; ComponentLink2Description: Datasheet; ComponentLink2URL: https://www.we-online.com/catalog/datasheet/885012007008.pdf; Height: 0.8mm; Length: 2mm; Mounting Technology: SMT; Operating Temperature max.: 125C; Operating Temperature min.: -55C; Packaging: Tape and Reel; Rated Voltage: 10V; Size: 0805; Width: 1.25mm
footprint WCAP-CSGP_0805_L2W1.25H0.8_Wave
footprint WCAP-CSGP_0805_L2W1.25H0.8_Reflow
pins: 1, 2

## 885012007009
designator C?, comment 10nF, 10V
WCAP-CSGP Multilayer Ceramic Chip Capacitor, General Purpose, size 0805, NP0, 10nF, 10V; Manufacturer: Wurth Elektronik; Manufacturer Part Number: 885012007009; Capacitance Tolerance: +/-5%; Isolation Resistance: 10GOhm; Q-Factor: 1000; Technical Reference: NP00805103J010DFCT10000; Capacitance: 10nF; Ceramic Type: NP0; ComponentLink1Description: Manufacturer Link; ComponentLink1URL: http://www.we-online.de; ComponentLink2Description: Datasheet; ComponentLink2URL: https://www.we-online.com/catalog/datasheet/885012007009.pdf; Height: 1.25mm; Length: 2mm; Mounting Technology: SMT; Operating Temperature max.: 125C; Operating Temperature min.: -55C; Packaging: Tape and Reel; Rated Voltage: 10V; Size: 0805; Width: 1.25mm
footprint WCAP-CSGP_0805_L2W1.25H1.25
pins: 1, 2

## 885012007010
designator C?, comment 10pF, 16V
WCAP-CSGP Multilayer Ceramic Chip Capacitor, General Purpose, size 0805, NP0, 10pF, 16V; Manufacturer: Wurth Elektronik; Manufacturer Part Number: 885012007010; Capacitance Tolerance: +/-5%; Isolation Resistance: 10GOhm; Q-Factor: 600; Technical Reference: NP00805100J016DFCT10000; Capacitance: 10pF; Ceramic Type: NP0; ComponentLink1Description: Manufacturer Link; ComponentLink1URL: http://www.we-online.de; ComponentLink2Description: Datasheet; ComponentLink2URL: https://www.we-online.com/catalog/datasheet/885012007010.pdf; Height: 0.6mm; Length: 2mm; Mounting Technology: SMT; Operating Temperature max.: 125C; Operating Temperature min.: -55C; Packaging: Tape and Reel; Rated Voltage: 16V; Size: 0805; Width: 1.25mm
footprint WCAP-CSGP_0805_L2W1.25H0.6_Wave
footprint WCAP-CSGP_0805_L2W1.25H0.6_Reflow
pins: 1, 2

## 885012007011
designator C?, comment 15pF, 16V
WCAP-CSGP Multilayer Ceramic Chip Capacitor, General Purpose, size 0805, NP0, 15pF, 16V; Manufacturer: Wurth Elektronik; Manufacturer Part Number: 885012007011; Capacitance Tolerance: +/-5%; Isolation Resistance: 10GOhm; Q-Factor: 700; Technical Reference: NP00805150J016DFCT10000; Capacitance: 15pF; Ceramic Type: NP0; ComponentLink1Description: Manufacturer Link; ComponentLink1URL: http://www.we-online.de; ComponentLink2Description: Datasheet; ComponentLink2URL: https://www.we-online.com/catalog/datasheet/885012007011.pdf; Height: 0.6mm; Length: 2mm; Mounting Technology: SMT; Operating Temperature max.: 125C; Operating Temperature min.: -55C; Packaging: Tape and Reel; Rated Voltage: 16V; Size: 0805; Width: 1.25mm
footprint WCAP-CSGP_0805_L2W1.25H0.6_Wave
footprint WCAP-CSGP_0805_L2W1.25H0.6_Reflow
pins: 1, 2

## 885012007012
designator C?, comment 22pF, 16V
WCAP-CSGP Multilayer Ceramic Chip Capacitor, General Purpose, size 0805, NP0, 22pF, 16V; Manufacturer: Wurth Elektronik; Manufacturer Part Number: 885012007012; Capacitance Tolerance: +/-5%; Isolation Resistance: 10GOhm; Q-Factor: 840; Technical Reference: NP00805220J016DFCT10000; Capacitance: 22pF; Ceramic Type: NP0; ComponentLink1Description: Manufacturer Link; ComponentLink1URL: http://www.we-online.de; ComponentLink2Description: Datasheet; ComponentLink2URL: https://www.we-online.com/catalog/datasheet/885012007012.pdf; Height: 0.6mm; Length: 2mm; Mounting Technology: SMT; Operating Temperature max.: 125C; Operating Temperature min.: -55C; Packaging: Tape and Reel; Rated Voltage: 16V; Size: 0805; Width: 1.25mm
footprint WCAP-CSGP_0805_L2W1.25H0.6_Wave
footprint WCAP-CSGP_0805_L2W1.25H0.6_Reflow
pins: 1, 2

## 885012007013
designator C?, comment 33pF, 16V
WCAP-CSGP Multilayer Ceramic Chip Capacitor, General Purpose, size 0805, NP0, 33pF, 16V; Manufacturer: Wurth Elektronik; Manufacturer Part Number: 885012007013; Capacitance Tolerance: +/-5%; Isolation Resistance: 10GOhm; Q-Factor: 1000; Technical Reference: NP00805330J016DFCT10000; Capacitance: 33pF; Ceramic Type: NP0; ComponentLink1Description: Manufacturer Link; ComponentLink1URL: http://www.we-online.de; ComponentLink2Description: Datasheet; ComponentLink2URL: https://www.we-online.com/catalog/datasheet/885012007013.pdf; Height: 0.6mm; Length: 2mm; Mounting Technology: SMT; Operating Temperature max.: 125C; Operating Temperature min.: -55C; Packaging: Tape and Reel; Rated Voltage: 16V; Size: 0805; Width: 1.25mm
footprint WCAP-CSGP_0805_L2W1.25H0.6_Wave
footprint WCAP-CSGP_0805_L2W1.25H0.6_Reflow
pins: 1, 2

## 885012007014
designator C?, comment 47pF, 16V
WCAP-CSGP Multilayer Ceramic Chip Capacitor, General Purpose, size 0805, NP0, 47pF, 16V; Manufacturer: Wurth Elektronik; Manufacturer Part Number: 885012007014; Capacitance Tolerance: +/-5%; Isolation Resistance: 10GOhm; Q-Factor: 1000; Technical Reference: NP00805470J016DFCT10000; Capacitance: 47pF; Ceramic Type: NP0; ComponentLink1Description: Manufacturer Link; ComponentLink1URL: http://www.we-online.de; ComponentLink2Description: Datasheet; ComponentLink2URL: https://www.we-online.com/catalog/datasheet/885012007014.pdf; Height: 0.6mm; Length: 2mm; Mounting Technology: SMT; Operating Temperature max.: 125C; Operating Temperature min.: -55C; Packaging: Tape and Reel; Rated Voltage: 16V; Size: 0805; Width: 1.25mm
footprint WCAP-CSGP_0805_L2W1.25H0.6_Wave
footprint WCAP-CSGP_0805_L2W1.25H0.6_Reflow
pins: 1, 2

## 885012007015
designator C?, comment 68pF, 16V
WCAP-CSGP Multilayer Ceramic Chip Capacitor, General Purpose, size 0805, NP0, 68pF, 16V; Manufacturer: Wurth Elektronik; Manufacturer Part Number: 885012007015; Capacitance Tolerance: +/-5%; Isolation Resistance: 10GOhm; Q-Factor: 1000; Technical Reference: NP00805680J016DFCT10000; Capacitance: 68pF; Ceramic Type: NP0; ComponentLink1Description: Manufacturer Link; ComponentLink1URL: http://www.we-online.de; ComponentLink2Description: Datasheet; ComponentLink2URL: https://www.we-online.com/catalog/datasheet/885012007015.pdf; Height: 0.6mm; Length: 2mm; Mounting Technology: SMT; Operating Temperature max.: 125C; Operating Temperature min.: -55C; Packaging: Tape and Reel; Rated Voltage: 16V; Size: 0805; Width: 1.25mm
footprint WCAP-CSGP_0805_L2W1.25H0.6_Wave
footprint WCAP-CSGP_0805_L2W1.25H0.6_Reflow
pins: 1, 2

## 885012007016
designator C?, comment 100pF, 16V
WCAP-CSGP Multilayer Ceramic Chip Capacitor, General Purpose, size 0805, NP0, 100pF, 16V; Manufacturer: Wurth Elektronik; Manufacturer Part Number: 885012007016; Capacitance Tolerance: +/-5%; Isolation Resistance: 10GOhm; Q-Factor: 1000; Technical Reference: NP00805101J016DFCT10000; Capacitance: 100pF; Ceramic Type: NP0; ComponentLink1Description: Manufacturer Link; ComponentLink1URL: http://www.we-online.de; ComponentLink2Description: Datasheet; ComponentLink2URL: https://www.we-online.com/catalog/datasheet/885012007016.pdf; Height: 0.6mm; Length: 2mm; Mounting Technology: SMT; Operating Temperature max.: 125C; Operating Temperature min.: -55C; Packaging: Tape and Reel; Rated Voltage: 16V; Size: 0805; Width: 1.25mm
footprint WCAP-CSGP_0805_L2W1.25H0.6_Wave
footprint WCAP-CSGP_0805_L2W1.25H0.6_Reflow
pins: 1, 2

## 885012007017
designator C?, comment 150pF, 16V
WCAP-CSGP Multilayer Ceramic Chip Capacitor, General Purpose, size 0805, NP0, 150pF, 16V; Manufacturer: Wurth Elektronik; Manufacturer Part Number: 885012007017; Capacitance Tolerance: +/-5%; Isolation Resistance: 10GOhm; Q-Factor: 1000; Technical Reference: NP00805151J016DFCT10000; Capacitance: 150pF; Ceramic Type: NP0; ComponentLink1Description: Manufacturer Link; ComponentLink1URL: http://www.we-online.de; ComponentLink2Description: Datasheet; ComponentLink2URL: https://www.we-online.com/catalog/datasheet/885012007017.pdf; Height: 0.6mm; Length: 2mm; Mounting Technology: SMT; Operating Temperature max.: 125C; Operating Temperature min.: -55C; Packaging: Tape and Reel; Rated Voltage: 16V; Size: 0805; Width: 1.25mm
footprint WCAP-CSGP_0805_L2W1.25H0.6_Wave
footprint WCAP-CSGP_0805_L2W1.25H0.6_Reflow
pins: 1, 2

## 885012007018
designator C?, comment 220pF, 16V
WCAP-CSGP Multilayer Ceramic Chip Capacitor, General Purpose, size 0805, NP0, 220pF, 16V; Manufacturer: Wurth Elektronik; Manufacturer Part Number: 885012007018; Capacitance Tolerance: +/-5%; Isolation Resistance: 10GOhm; Q-Factor: 1000; Technical Reference: NP00805221J016DFCT10000; Capacitance: 220pF; Ceramic Type: NP0; ComponentLink1Description: Manufacturer Link; ComponentLink1URL: http://www.we-online.de; ComponentLink2Description: Datasheet; ComponentLink2URL: https://www.we-online.com/catalog/datasheet/885012007018.pdf; Height: 0.6mm; Length: 2mm; Mounting Technology: SMT; Operating Temperature max.: 125C; Operating Temperature min.: -55C; Packaging: Tape and Reel; Rated Voltage: 16V; Size: 0805; Width: 1.25mm
footprint WCAP-CSGP_0805_L2W1.25H0.6_Wave
footprint WCAP-CSGP_0805_L2W1.25H0.6_Reflow
pins: 1, 2

## 885012007019
designator C?, comment 330pF, 16V
WCAP-CSGP Multilayer Ceramic Chip Capacitor, General Purpose, size 0805, NP0, 330pF, 16V; Manufacturer: Wurth Elektronik; Manufacturer Part Number: 885012007019; Capacitance Tolerance: +/-5%; Isolation Resistance: 10GOhm; Q-Factor: 1000; Technical Reference: NP00805331J016DFCT10000; Capacitance: 330pF; Ceramic Type: NP0; ComponentLink1Description: Manufacturer Link; ComponentLink1URL: http://www.we-online.de; ComponentLink2Description: Datasheet; ComponentLink2URL: https://www.we-online.com/catalog/datasheet/885012007019.pdf; Height: 0.6mm; Length: 2mm; Mounting Technology: SMT; Operating Temperature max.: 125C; Operating Temperature min.: -55C; Packaging: Tape and Reel; Rated Voltage: 16V; Size: 0805; Width: 1.25mm
footprint WCAP-CSGP_0805_L2W1.25H0.6_Wave
footprint WCAP-CSGP_0805_L2W1.25H0.6_Reflow
pins: 1, 2

## 885012007020
designator C?, comment 470pF, 16V
WCAP-CSGP Multilayer Ceramic Chip Capacitor, General Purpose, size 0805, NP0, 470pF, 16V; Manufacturer: Wurth Elektronik; Manufacturer Part Number: 885012007020; Capacitance Tolerance: +/-5%; Isolation Resistance: 10GOhm; Q-Factor: 1000; Technical Reference: NP00805471J016DFCT10000; Capacitance: 470pF; Ceramic Type: NP0; ComponentLink1Description: Manufacturer Link; ComponentLink1URL: http://www.we-online.de; ComponentLink2Description: Datasheet; ComponentLink2URL: https://www.we-online.com/catalog/datasheet/885012007020.pdf; Height: 0.8mm; Length: 2mm; Mounting Technology: SMT; Operating Temperature max.: 125C; Operating Temperature min.: -55C; Packaging: Tape and Reel; Rated Voltage: 16V; Size: 0805; Width: 1.25mm
footprint WCAP-CSGP_0805_L2W1.25H0.8_Wave
footprint WCAP-CSGP_0805_L2W1.25H0.8_Reflow
pins: 1, 2